# Altium footprint library ACJSMHOM.PcbLib: 1 footprints
Each footprint in its own frame and in the unit in brackets; x right, y up, seen from the top. Pads: shape width x height; smd on the part's side, far side on the other; paste and mask are expansions set on the pad; w line width, h text height; cw(c..) or ccw(c..) is an arc to the next point about the centre after c.
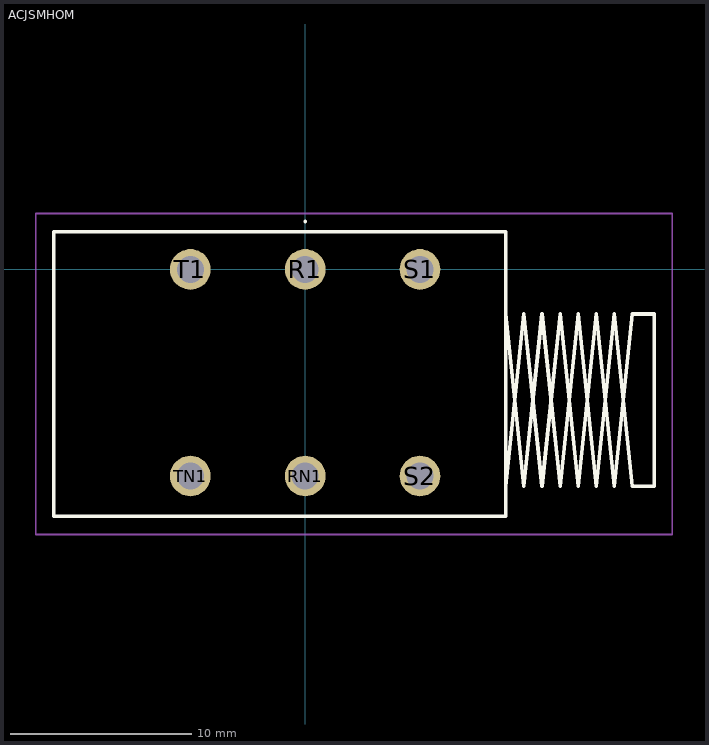
[diagram p0: the footprint, top view; thin cyan lines are the x and y axes]

## ACJSMHOM [mm]
pads (6):
  round 2.25 hole 1.5: R1(0,0) RN1(0,-11.43) S1(6.35,0) S2(6.35,-11.43) T1(-6.35,0) TN1(-6.35,-11.43)
Top Overlay:
  lines w0.1: 0,2.6 0,2.6 ; 0,2.6 ccw(c0,2.65) 0,2.7 ; 0,2.6 cw(c0,2.65) 0,2.7 ; 0,2.7 0,2.7
  lines w0.2: 11.1,-11.992 12.1,-2.467 13.1,-11.992 14.1,-2.467 15.1,-11.992 16.1,-2.467 17.1,-11.992 18.1,-2.467 19.3,-2.467 19.3,-11.992 18.1,-11.992 17.1,-2.467 16.1,-11.992 15.1,-2.467 14.1,-11.992 13.1,-2.467 12.1,-11.992 11.1,-2.467 ; -13.9,-13.66 11.1,-13.66 11.1,2.09 -13.9,2.09 -13.9,-13.66
Mechanical 15:
  lines w0.1: 11.1,-11.992 12.1,-2.467 13.1,-11.992 14.1,-2.467 15.1,-11.992 16.1,-2.467 17.1,-11.992 18.1,-2.467 19.3,-2.467 19.3,-11.992 18.1,-11.992 17.1,-2.467 16.1,-11.992 15.1,-2.467 14.1,-11.992 13.1,-2.467 12.1,-11.992 11.1,-2.467 ; -13.9,-13.66 11.1,-13.66 11.1,2.09 -13.9,2.09 -13.9,-13.66
Mechanical 20:
  lines w0.1: -14.9,-14.66 20.3,-14.66 20.3,3.09 -14.9,3.09 -14.9,-14.66